# Altium footprint library LRMAP4026.PcbLib: 1 footprints
Each footprint in its own frame and in the unit in brackets; x right, y up, seen from the top. Pads: shape width x height; smd on the part's side, far side on the other; paste and mask are expansions set on the pad; w line width, h text height; cw(c..) or ccw(c..) is an arc to the next point about the centre after c.
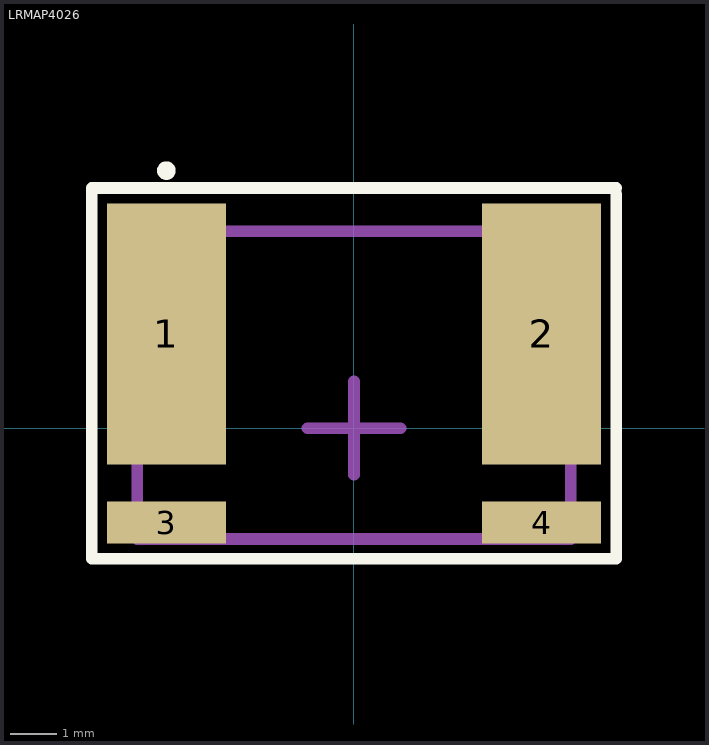
[diagram p0: the footprint, top view; thin cyan lines are the x and y axes]

## LRMAP4026 [mm]
pads (4):
  rect 2.55x5.6 smd paste+0 mask+0: 1(-4.025,2.025) 2(4.025,2.025)
  rect 2.55x0.9 smd paste+0 mask+0: 3(-4.025,-2.025) 4(4.025,-2.025)
Top Overlay:
  circle w0.2: c-4.025,5.525 r0.1
  lines w0.254: 5.625,5.025 5.625,-2.8 -5.625,-2.8 -5.625,5.15 -5.15,5.15 -5.025,5.15 5.625,5.15
Top Designator:
  text ".Designator" at -7.618,0.891 h1.52
3D Body:
  lines w0.254: -4.65,-2.375 4.65,-2.375 4.65,4.225 -4.65,4.225 -4.65,-2.375
Center Cross:
  lines w0.254: -1,0 0,0 ; 0,-1 0,0 ; 0,1 0,0 ; 1,0 0,0
3D body: height 3, standoff 2.6, extent -3.05,-2.375 3.05,4.225
3D body: height 2.6, standoff 0.4, extent -3.05,-2.375 -2.65,4.225
3D body: height 2.6, standoff 0.4, extent 2.65,-2.375 3.05,4.225
3D body: height 0.4, standoff 0, extent 2.65,-0.675 5.05,4.225
3D body: height 0.4, standoff 0, extent -5.05,-0.675 -2.65,4.225
3D body: height 0.4, standoff 0, extent -5.05,-2.375 -2.65,-1.675
3D body: height 0.4, standoff 0, extent 2.65,-2.375 5.05,-1.675